# Altium schematic symbol library TX2-Baseboard.SchLib: 118 symbols
Pins are listed as number, name and electrical type; pins without a type are passive.

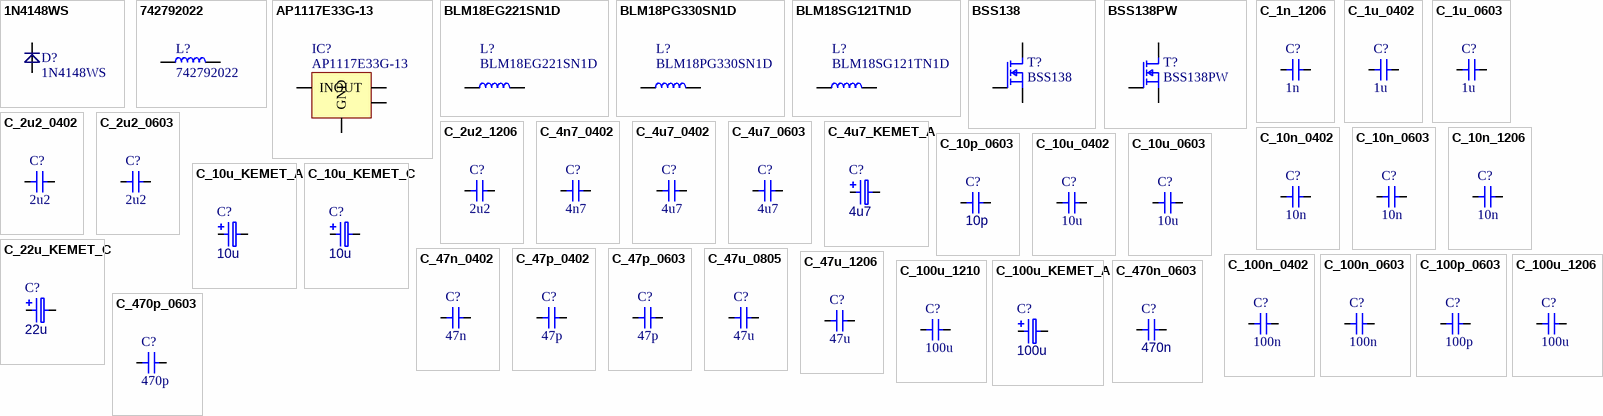
[diagram p0: symbols 1N4148WS to C_470p_0603]

## 1N4148WS
designator D?
Diode small signal; Manufacturer: MULTICOMP; PartNumber: 1N4148WS; Value: 1N4148WS; PartSymbol: 1N4148WS
footprint SOD-323
pins: A, C

## 742792022
designator L?
WURTH ELEKTRONIK - 742792022 - FERRITE BEAD, 0.05OHM, 2A, 0805; Part Number: 742792022; Value: 742792022; Manufacturer: WURTH ELEKTRONIK; Part Symbol: 742792022
footprint 0805
pins: 1, 2

## AP1117E33G-13
designator IC?
IC, LDO, REG, 3.3V, SOT223; Manufacturer: DIODES INC.; Part Number: AP1117E33G-13; Part Symbol: AP1117E33G-13; Value: AP1117E33G-13
footprint SOT223
pins: 1 GND (power), 2 OUT, 3 IN (power), 4 OUT

## BLM18EG221SN1D
designator L?
FERRITE BEAD, 0.025OHM, 3A, 0603; Manufacturer: MURATA; Part Number: BLM18EG221SN1D; Value: BLM18EG221SN1D; Part Symbol: BLM18EG221SN1D
footprint 0603
pins: 1, 2

## BLM18PG330SN1D
designator L?
FERRITE BEAD, 0.025OHM, 3A, 0603; Manufacturer: MURATA; Part Number: BLM18PG330SN1D; Value: BLM18PG330SN1D; Part Symbol: BLM18PG330SN1D
footprint 0603
pins: 1, 2

## BLM18SG121TN1D
designator L?
FERRITE BEAD, 0.025OHM, 3A, 0603; Manufacturer: MURATA; Part Number: BLM18SG121TN1D; Value: BLM18SG121TN1D; Part Symbol: BLM18SG121TN1D
footprint 0603
pins: 1, 2

## BSS138
designator T?
MOSFET, N CH, 60V, 0.2A; Manufacturer: NXP; Value: BSS138; Part Number: BSS138; Part Symbol: BSS138
footprint SOT-23 (SOT23, 3-Leads, Body 2.90x2.45mm, Pitch 0.95mm, IPC Medium Density)
footprint SC70-3
pins: 1 G, 2 S, 3 D

## BSS138PW
designator T?
MOSFET, N CH, 60V, 0.2A; Manufacturer: NXP; Value: BSS138PW; Part Number: BSS138PW; Part Symbol: BSS138PW
footprint SOT-23 (SOT23, 3-Leads, Body 2.90x2.45mm, Pitch 0.95mm, IPC Medium Density)
footprint SC70-3
pins: 1 G, 2 S, 3 D

## C_1n_1206
designator C?, comment 1n
MLCC SMT Capacitor 1nF 1206; PartNumber: C_1n_1206; Manufacturer: AVX; PartSymbol: 12061A102JAT2A; Value: 1n
footprint 1206
pins: 1, 2
1 alternate drawing of the same symbol

## C_1u_0402
designator C?, comment 1u
MLCC SMT Capacitor 1uF 0402; PartNumber: C_1u_0402; Manufacturer: MULTICOMP; PartSymbol: MC0402F105Z6R3CT; Value: 1u
footprint 0402
pins: 1, 2
1 alternate drawing of the same symbol

## C_1u_0603
designator C?, comment 1u
MLCC SMT Capacitor 1uF 0603; PartNumber: C_1u_0603; Manufacturer: KEMET; PartSymbol: C0603C105M4PACTU; Value: 1u
footprint 0603 (Chip Inductor Ferrite Bead 0603)
pins: 1, 2
1 alternate drawing of the same symbol

## C_2u2_0402
designator C?, comment 2u2
MLCC SMT Capacitor 2.2uF 0402; PartNumber: C_2u2_0402; Manufacturer: TDK; PartSymbol: C1005X5R1A225K050BC; Value: 2u2
footprint 0402
pins: 1, 2
1 alternate drawing of the same symbol

## C_2u2_0603
designator C?, comment 2u2
MLCC SMT Capacitor 2.2uF 0603; PartNumber: C_2u2_0603; Manufacturer: TDK; PartSymbol: C1005X5R1A225K050BC; Value: 2u2
footprint 0603 (Chip Inductor Ferrite Bead 0603)
pins: 1, 2
1 alternate drawing of the same symbol

## C_2u2_1206
designator C?, comment 2u2
MLCC SMT Capacitor 2.2uF 1206; PartNumber: C_2u2_1206; Manufacturer: KEMET; PartSymbol: C1206C225J5RACTU; Value: 2u2
footprint 1206
pins: 1, 2
1 alternate drawing of the same symbol

## C_4n7_0402
designator C?, comment 4n7
MLCC SMT Capacitor 4.7 nF 0402; PartNumber: C_4n7_0402; Manufacturer: TDK; PartSymbol: CGA2B3X7S2A472K050BB; Value: 4n7
footprint 0402
pins: 1, 2
1 alternate drawing of the same symbol

## C_4u7_0402
designator C?, comment 4u7
MLCC SMT Capacitor 4.7uF 0402; PartNumber: C_4u7_0402; Manufacturer: MURATA; PartSymbol: GRM155R60G475ME; Value: 4u7
footprint 0402
pins: 1, 2
1 alternate drawing of the same symbol

## C_4u7_0603
designator C?, comment 4u7
MLCC SMT Capacitor 4.7uF 0603; PartNumber: C_4u7_0603; Manufacturer: MULTICOMP; PartSymbol: MC0603X475K6R3CT; Value: 4u7
footprint 0603 (Chip Inductor Ferrite Bead 0603)
pins: 1, 2
1 alternate drawing of the same symbol

## C_4u7_KEMET_A
designator C?, comment 4u7
Tantalum SMT Capacitor 4u7F Case KEMET_A; Part Number: C_4u7_KEMET_A; Manufacturer: KEMET; Part Symbol: T491A475K010AT; Value: 4u7
footprint KEMET_A
pins: 1, 2
1 alternate drawing of the same symbol

## C_10n_0402
designator C?, comment 10n
MLCC SMT Capacitor 10 nF 0402; PartNumber: C_10n_0402; Manufacturer: AVX; PartSymbol: 04025G103ZAT2A; Value: 10n
footprint 0402
pins: 1, 2
1 alternate drawing of the same symbol

## C_10n_0603
designator C?, comment 10n
MLCC SMT Capacitor 10 nF 0603; PartNumber: C_10n_0603; Manufacturer: AVX; PartSymbol: 06031C103JAT2A; Value: 10n
footprint 0603 (Chip Inductor Ferrite Bead 0603)
pins: 1, 2
1 alternate drawing of the same symbol

## C_10n_1206
designator C?, comment 10n
MLCC SMT Capacitor 10nF 1206; PartNumber: C_10n_1206; Manufacturer: MULTICOMP; PartSymbol: MC1206B103K631CT; Value: 10n
footprint 1206
pins: 1, 2
1 alternate drawing of the same symbol

## C_10p_0603
designator C?, comment 10p
MLCC SMT Capacitor 10pF 0603; Part Number: C_10p_0603; Manufacturer: JOHANSON TECHNOLOGY; Part Symbol: 251R14S100GV4T; Value: 10p
footprint 0603
pins: 1, 2
1 alternate drawing of the same symbol

## C_10u_0402
designator C?, comment 10u
MLCC SMT Capacitor 10uF 0402; PartNumber: C_10u_0402; Manufacturer: TDK; PartSymbol: C1005X5R0J106M050BC; Value: 10u
footprint 0402
pins: 1, 2
1 alternate drawing of the same symbol

## C_10u_0603
designator C?, comment 10u
MLCC SMT Capacitor 10uF 0603; PartNumber: C_10u_0603; Manufacturer: Walsin; PartSymbol: 0603X106M6R3CT; Value: 10u
footprint 0603 (Chip Inductor Ferrite Bead 0603)
pins: 1, 2
1 alternate drawing of the same symbol

## C_10u_KEMET_A
designator C?, comment 10u
Tantalum SMT Capacitor 10uF Case KEMET_A; Part Number: C_10u_KEMET_A; Manufacturer: VISHAY; Part Symbol: 293D106X9016A2TE3; Value: 10u
footprint KEMET_A
pins: 1, 2
1 alternate drawing of the same symbol

## C_10u_KEMET_C
designator C?, comment 10u
Tantalum SMT Capacitor 10uF Case KEMET_C; Part Number: C_10u_KEMET_C; Manufacturer: KEMET; Part Symbol: T491C106K025AT; Value: 10u
footprint KEMET_C
pins: 1, 2
1 alternate drawing of the same symbol

## C_22u_KEMET_C
designator C?, comment 22u
Tantalum SMT Capacitor 22uF Case KEMET_C; Part Number: C_22u_KEMET_C; Manufacturer: KEMET; Part Symbol: T491C226K025AT; Value: 22u
footprint KEMET_C
pins: 1, 2
1 alternate drawing of the same symbol

## C_47n_0402
designator C?, comment 47n
MLCC SMT Capacitor 47nF 0402; PartNumber: C_47n_0402; Manufacturer: MULTICOMP; PartSymbol: MC0402X473K160CT; Value: 47n
footprint 0402
pins: 1, 2
1 alternate drawing of the same symbol

## C_47p_0402
designator C?, comment 47p
MLCC SMT Capacitor 47pF 0402; PartNumber: C_47p_0402; Manufacturer: KEMET; PartSymbol: C0402C470J5GACTU; Value: 47p
footprint 0402
pins: 1, 2
1 alternate drawing of the same symbol

## C_47p_0603
designator C?, comment 47p
MLCC SMT Capacitor 47pF 0603; PartNumber: C_47p_0603; Manufacturer: AVX; PartSymbol: 06031A470KAT2A; Value: 47p
footprint 0603 (Chip Inductor Ferrite Bead 0603)
pins: 1, 2
1 alternate drawing of the same symbol

## C_47u_0805
designator C?, comment 47u
MLCC SMT Capacitor 47uF 0805; PartNumber: C_47u_0805; Manufacturer: KEMET; PartSymbol: C0805C476M9PACTU; Value: 47u
footprint 0805
pins: 1, 2
1 alternate drawing of the same symbol

## C_47u_1206
designator C?, comment 47u
MLCC SMT Capacitor 47uF 1206; PartNumber: C_47u_1206; Manufacturer: MURATA; PartSymbol: GRM31CC80J476KE18L; Value: 47u
footprint 1206
pins: 1, 2
1 alternate drawing of the same symbol

## C_100n_0402
designator C?, comment 100n
MLCC SMT Capacitor 100n 0402; PartNumber: C_100n_0402; Manufacturer: TDK; PartSymbol: C1005X5R0J104K050BA; Value: 100n
footprint 0402
pins: 1, 2
1 alternate drawing of the same symbol

## C_100n_0603
designator C?, comment 100n
MLCC SMT Capacitor 100nF 0603; PartNumber: C_100n_0603; Manufacturer: AVX; PartSymbol: 0603YC104KAZ2A; Value: 100n
footprint 0603 (Chip Inductor Ferrite Bead 0603)
pins: 1, 2
1 alternate drawing of the same symbol

## C_100p_0603
designator C?, comment 100p
MLCC SMT Capacitor 100pF 0603; PartNumber: C_100p_0603; Manufacturer: Walsin; PartSymbol: 0603N101J500CT; Value: 100p
footprint 0603 (Chip Inductor Ferrite Bead 0603)
pins: 1, 2
1 alternate drawing of the same symbol

## C_100u_1206
designator C?, comment 100u
MLCC SMT Capacitor 100uF 1206; PartNumber: C_100u_1206; Manufacturer: Vishay; PartSymbol: TMCMA0J107MTRF; Value: 100u
footprint 1206
pins: 1, 2
1 alternate drawing of the same symbol

## C_100u_1210
designator C?, comment 100u
MLCC SMT Capacitor 100uF 1210; PartNumber: C_100u_1210; Manufacturer: SAMSUNG; PartSymbol: CL32A107MQVNNNE; Value: 100u
footprint 1210
pins: 1, 2
1 alternate drawing of the same symbol

## C_100u_KEMET_A
designator C?, comment 100u
Tantalum SMT Capacitor 100uF Case KEMET_A; Part Number: C_100u_KEMET_A; Manufacturer: VISHAY; Part Symbol: 298D107X06R3A2T; Value: 100u
footprint KEMET_A
pins: 1, 2
1 alternate drawing of the same symbol

## C_470n_0603
designator C?, comment 470n
MLCC SMT Capacitor 470nF 0603; Part Number: C_470n_0603; Manufacturer: TDK; Part Symbol: C1608X5R1H474K080AB; Value: 470n
footprint 0603
pins: 1, 2
1 alternate drawing of the same symbol

## C_470p_0603
designator C?, comment 470p
MLCC SMT Capacitor 470pF 0603; PartNumber: C_470p_0603; Manufacturer: AVX; PartSymbol: 06031C471JAT2A; Value: 470p
footprint 0603 (Chip Inductor Ferrite Bead 0603)
pins: 1, 2
1 alternate drawing of the same symbol

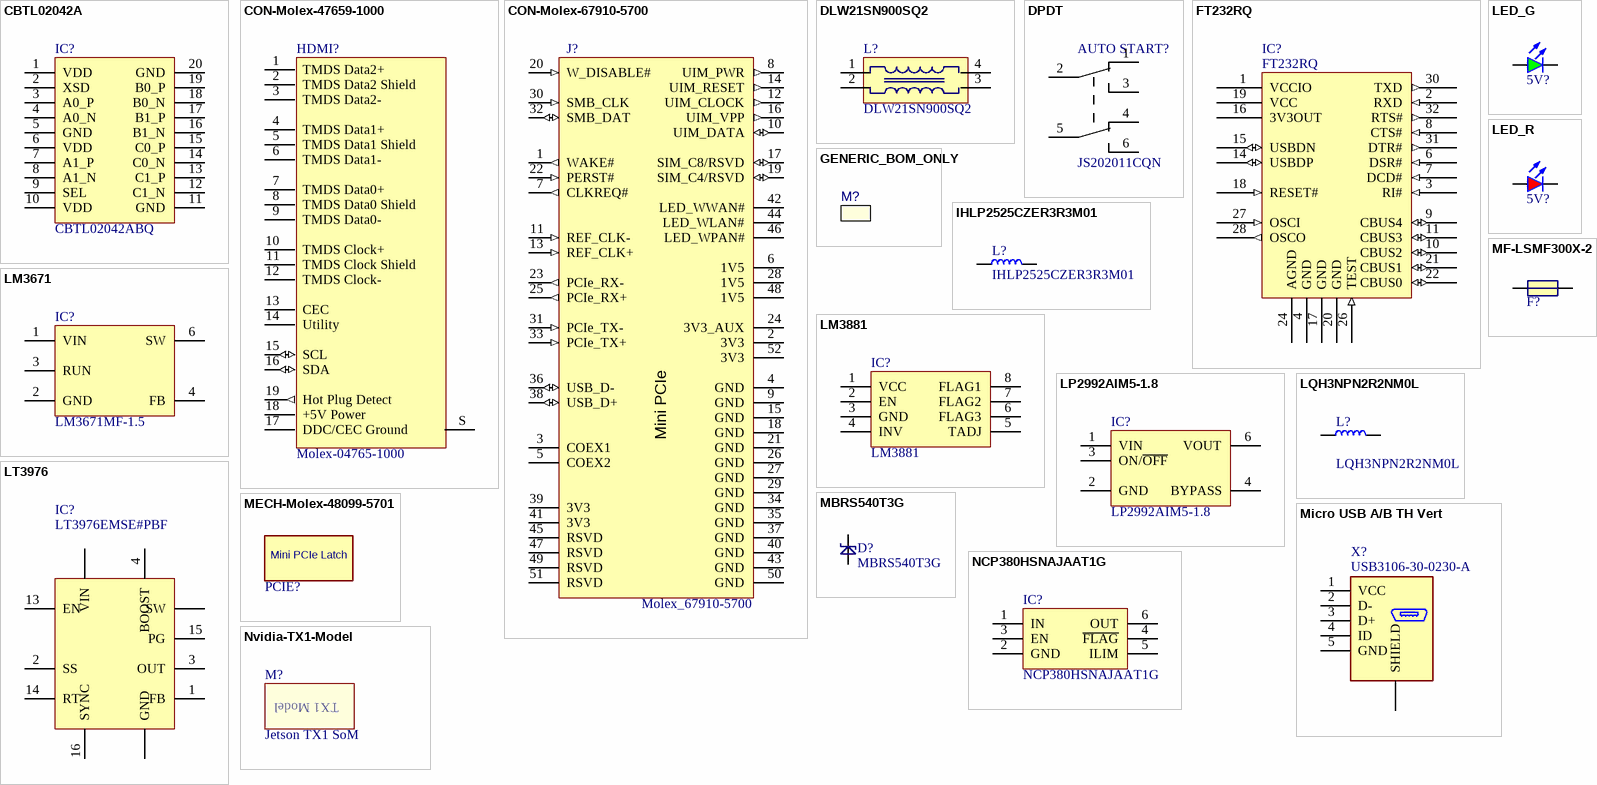
[diagram p1: symbols CBTL02042A to Nvidia-TX1-Model]

## CBTL02042A
designator IC?, comment CBTL02042ABQ
IC MUX/DEMUX 2:1 PCI 20DHVQFN; Manufacturer: NXP Semiconductors; Part Symbol: CBTL02042ABQ,115; Part Number: CBTL02042ABQ; Value: CBTL02042ABQ
footprint DHVQFN20
pins: 1 VDD, 2 XSD, 3 A0_P, 4 A0_N, 5 GND, 6 VDD, 7 A1_P, 8 A1_N, 9 SEL, 10 VDD, 11 GND, 12 C1_N, 13 C1_P, 14 C0_N, 15 C0_P, 16 B1_N, 17 B1_P, 18 B0_N, 19 B0_P, 20 GND

## CON-Molex-47659-1000
designator HDMI?, comment Molex-04765-1000
HDMI connector vertical; Part Number: CON-Molex-47659-1000; Manufacturer: Molex; Part Symbol: 47659-1000; Value: Molex-04765-1000
footprint CON-Molex-04765-1000
pins: 1 TMDS Data2+, 2 TMDS Data2 Shield, 3 TMDS Data2-, 4 TMDS Data1+, 5 TMDS Data1 Shield, 6 TMDS Data1-, 7 TMDS Data0+, 8 TMDS Data0 Shield, 9 TMDS Data0-, 10 TMDS Clock+, 11 TMDS Clock Shield, 12 TMDS Clock-, 13 CEC, 14 Utility, 15 SCL (io), 16 SDA (io), 17 DDC/CEC Ground (power), 18 +5V Power (power), 19 Hot Plug Detect (out), S SH

## CON-Molex-67910-5700
designator J?, comment Molex_67910-5700
PCIe Mini Card Holder 4mm; Part Number: CON-Molex-67910-5700; Manufacturer: Molex; Value: Molex_67910-5700; Part Symbol: 67910-5700
footprint T_Molex_67910-5700 (Molex PCIe mini card connector with clip)
pins: 1 WAKE# (out), 2 3V3 (power), 3 COEX1, 4 GND (power), 5 COEX2, 6 1V5 (power), 7 CLKREQ# (out), 8 UIM_PWR (out), 9 GND (power), 10 UIM_DATA (io), 11 REF_CLK- (in), 12 UIM_CLOCK (out), 13 REF_CLK+ (in), 14 UIM_RESET (out), 15 GND (power), 16 UIM_VPP (out), 17 SIM_C8/RSVD (io), 18 GND (power), 19 SIM_C4/RSVD (io), 20 W_DISABLE# (in), 21 GND (power), 22 PERST# (in), 23 PCIe_RX- (out), 24 3V3_AUX (power), 25 PCIe_RX+ (out), 26 GND (power), 27 GND (power), 28 1V5 (power), 29 GND (power), 30 SMB_CLK (in), 31 PCIe_TX- (in), 32 SMB_DAT (io), 33 PCIe_TX+ (in), 34 GND (power), 35 GND (power), 36 USB_D- (io), 37 GND (power), 38 USB_D+ (io), 39 3V3, 40 GND (power), 41 3V3, 42 LED_WWAN# (oc), 43 GND (power), 44 LED_WLAN# (oc), 45 RSVD, 46 LED_WPAN# (oc), 47 RSVD, 48 1V5 (power), 49 RSVD, 50 GND (power), 51 RSVD, 52 3V3 (power)
text: Mini PCIe

## DLW21SN900SQ2
designator L?
Common mode choke; Manufacturer: MURATA; Part Symbol: DLW21SN900SQ2L; Part Number: DLW21SN900SQ2; Value: DLW21SN900SQ2
footprint DLW21SN900SQ2
pins: 1, 2, 3, 4

## DPDT
designator AUTO START?, comment JS202011CQN
Sub-Miniature Slide Switch; Manufacturer: C&K; Value: JS202011CQN
footprint JS202011CQN
pins: 1, 2, 3, 4, 5, 6

## FT232RQ
designator IC?
USB to serial UART interface; Manufacturer: FTDI; Part Symbol: FT232RQ-REEL; Part Number: FT232RQ; Value: FT232RQ
footprint QFN-32
pins: 1 VCCIO (power), 2 RXD (in), 3 RI# (in), 4 GND (power), 6 DSR# (in), 7 DCD# (in), 8 CTS# (in), 9 CBUS4 (io), 10 CBUS2 (io), 11 CBUS3 (io), 14 USBDP (io), 15 USBDN (io), 16 3V3OUT (power), 17 GND (power), 18 RESET# (in), 19 VCC (power), 20 GND (power), 21 CBUS1 (io), 22 CBUS0 (io), 24 AGND (power), 26 TEST (in), 27 OSCI (in), 28 OSCO (out), 30 TXD (out), 31 DTR# (out), 32 RTS# (out)

## GENERIC_BOM_ONLY
designator M?  (value not drawn)  (mechanical)
Manufacturer: Dremec; Part Symbol: 316/3.2x07

## IHLP2525CZER3R3M01
designator L?
3.3 µH, ± 20%, Shielded, 0.02 ohm, 8 A; Manufacturer: VISHAY; Part Number: IHLP2525CZER3R3M01; Value: IHLP2525CZER3R3M01; Part Symbol: IHLP2525CZER3R3M01
footprint IHLP-2525CZ-01
pins: 1, 2

## LED_G
designator 5V?, comment KPT-1608SGC  (value not drawn)
LED Green 0603 case; Part Number: LED_G; Manufacturer: KINGBRIGHT; Value: KPT-1608SGC; Part Symbol: KPT-1608SGC
footprint LED0603
pins: A, K

## LED_R
designator 5V?, comment KPT-1608EC  (value not drawn)
LED Red 0603 case; Part Number: LED_R; Manufacturer: KINGBRIGHT; Value: KPT-1608EC; Part Symbol: KPT-1608EC
footprint LED0603
pins: A, K

## LM3671
designator IC?, comment LM3671MF-1.5
DC/DC Buck Converter; Manufacturer: TEXAS INSTRUMENTS; Part Symbol: LM3671MF-1.5/NOPB; Part Number: LM3671MF-1.5; Value: LM3671MF-1.5
footprint SOT23-5N
pins: 1 VIN, 2 GND, 3 RUN, 4 FB, 6 SW

## LM3881
designator IC?
TEXAS INSTRUMENTS  LM3881MME/NOPB  Power Sequencer, 3-Monitors, 2.7V-5.5Vin,VSSOP-8; Part Number: LM3881; Value: LM3881; Manufacturer: TEXAS INSTRUMENTS; Part Symbol: LM3881MME
footprint MSOP-8
pins: 1 VCC, 2 EN (power), 3 GND (power), 4 INV, 5 TADJ (power), 6 FLAG3, 7 FLAG2, 8 FLAG1

## LP2992AIM5-1.8
designator IC?
LDO 1.8V 250mA; Manufacturer: TEXAS INSTRUMENTS; Part Symbol: LP2992AIM5-1.8/NOPB; Part Number: LP2992AIM5-1.8; Value: LP2992AIM5-1.8
footprint SOT23-5N
pins: 1 VIN, 2 GND, 3 ON/~{OFF}, 4 BYPASS, 6 VOUT

## LQH3NPN2R2NM0L
designator L?
INDUCTOR, 2.2 µH, ± 30%, 1212, 90 MHz, 0.073 ohm; Manufacturer: MURATA; Part Number: LQH3NPN2R2NM0L; Value: LQH3NPN2R2NM0L; Part Symbol: LQH3NPN2R2NM0L
footprint LQH3NPN2R2NM
pins: 1, 2

## LT3976
designator IC?, comment LT3976EMSE#PBF
LINEAR TECHNOLOGY  LT3976EMSE#PBF  DC-DC CONVERTER, 2MHZ, 5A, MSOP-16; Part Number: LT3976EMSE#PBF; Value: LT3976EMSE#PBF; Manufacturer: LINEAR TECHNOLOGY; Part Symbol: LT3976EMSE#PBF
footprint MSOP-16
footprint LT3976EMSE
pins: 1 FB, 2 SS, 3 OUT, 4 BOOST, 13 EN, 14 RT, 15 PG, 16 SYNC, GND, SW, VIN

## MBRS540T3G
designator D?
ON SEMICONDUCTOR  MBRS540T3G  Rectifier Diode, Single, 40 V, 5 A, 500 mV, 190 A, 150 °C; Part Number: MBRS540T3G; Value: MBRS540T3G; Manufacturer: ON SEMICONDUCTOR; Part Symbol: MBRS540T3G
footprint SMC-403-03
pins: A, C

## MECH-Molex-48099-5701
designator PCIE?  (value not drawn)  (mechanical)
PCI Express/PCI Connectors LATCH ASSY FOR MINIP CI-ENEW TYPE W/COVER; Manufacturer: Molex; Part Number: MECH-Molex-48099-5701; Value: MECH-Molex-48099-5701; Part Symbol: 48099-5701
footprint MECH-Molex-48099-5701
text: Mini PCIe Latch

## MF-LSMF300X-2
designator F?, comment 3.0A  (value not drawn)
3.0A, 6V, PTC Resettabe Fuse; Part Number: MF-LSMF300X-2; Manufacturer: BOURNS; Value: 3.0A; Part Symbol: MF-LSMF300X-2
footprint Fuse-MF-LSMF
pins: 1, 2

## Micro USB A/B TH Vert
designator X?, comment USB3106-30-0230-A
Micro USB A/B TH Vertical; Manufacturer: GLOBAL CONNECTOR TECHNOLOGY; Part Symbol: USB3105-30-A; Part Number: Micro USB A/B TH Vert; Value: USB3106-30-0230-A
footprint USB3106
pins: 1 VCC (power), 2 D-, 3 D+, 4 ID, 5 GND (power), S SHIELD

## NCP380HSNAJAAT1G
designator IC?
POWER LOAD SWITCH, HIGH SIDE; Manufacturer: ON Semiconductor; Part Number: NCP380HSNAJAAT1G; Value: NCP380HSNAJAAT1G; Part Symbol: NCP380HSNAJAAT1G
footprint TSOP-6
pins: 1 IN, 2 GND, 3 EN, 4 ~{FLAG}, 5 ILIM, 6 OUT

## Nvidia-TX1-Model
designator M?, comment Jetson TX1 SoM
TX1 module; Part Number: Nvidia-TX1-Model; Manufacturer: NVIDIA; Part Symbol: Jetson TX1-SoM; Value: Jetson TX1 SoM
footprint Nvidia-TX1-Model
text: TX1 Model

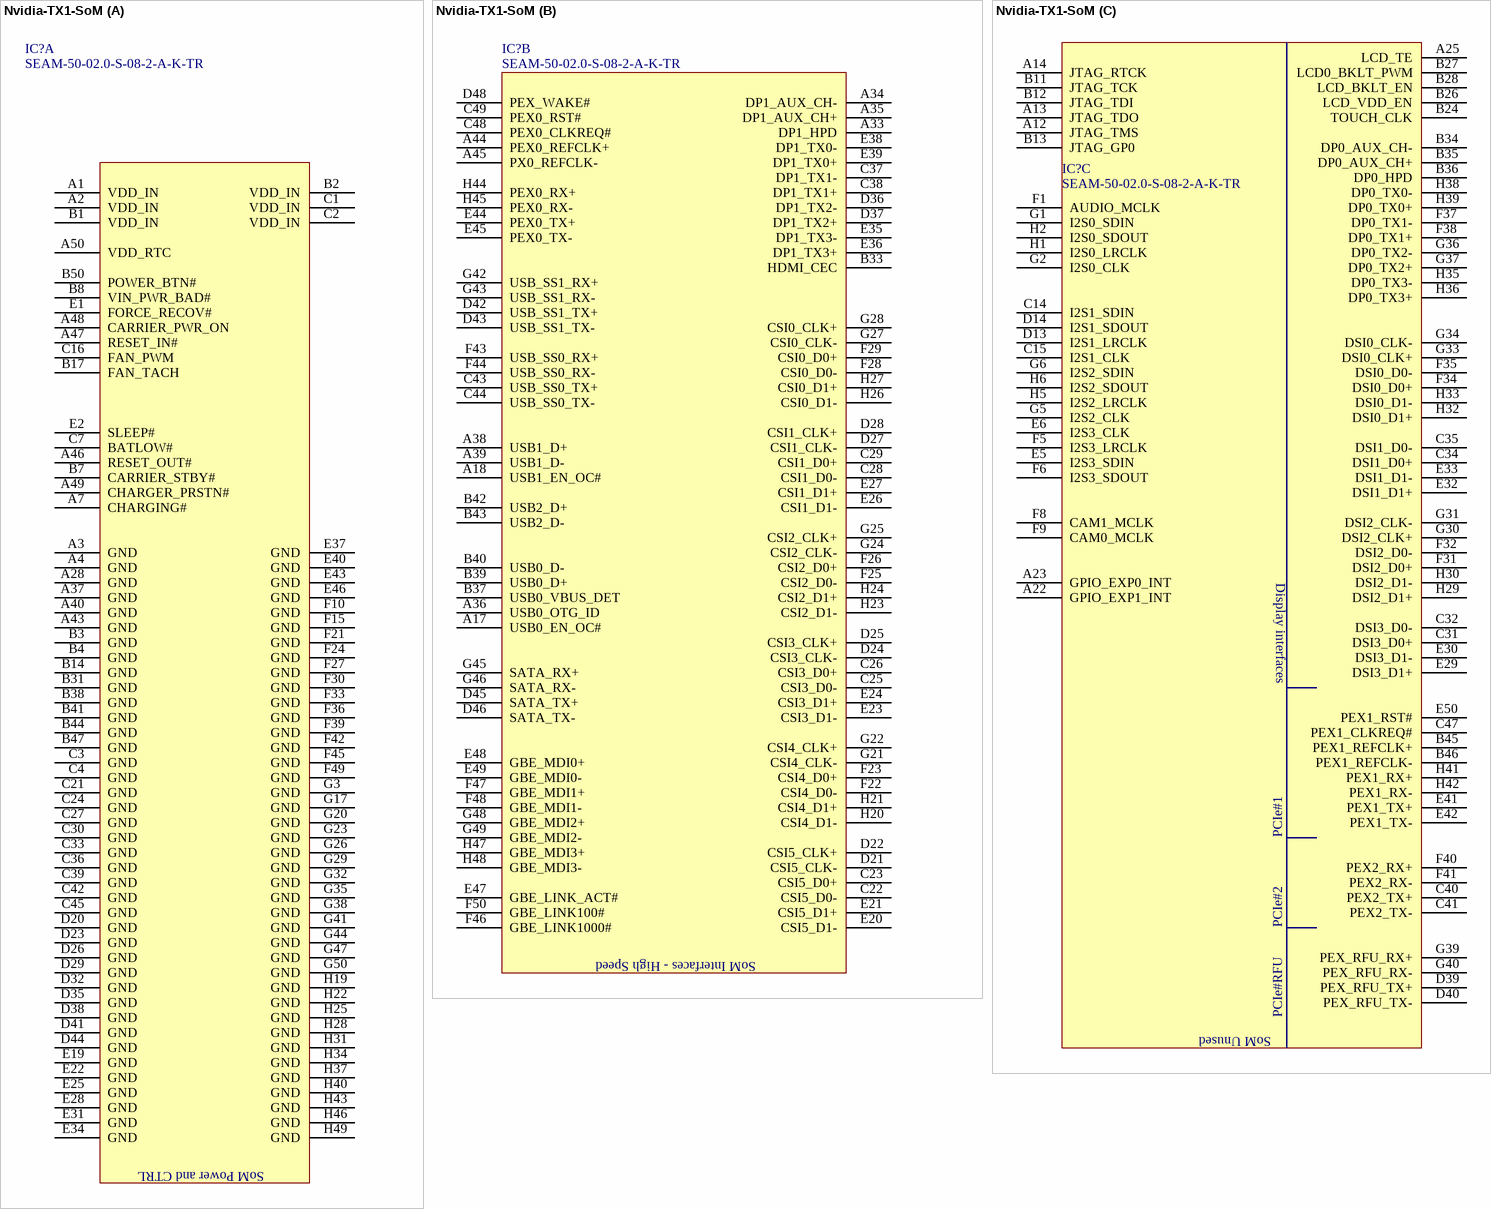
[diagram p2: symbol Nvidia-TX1-SoM]

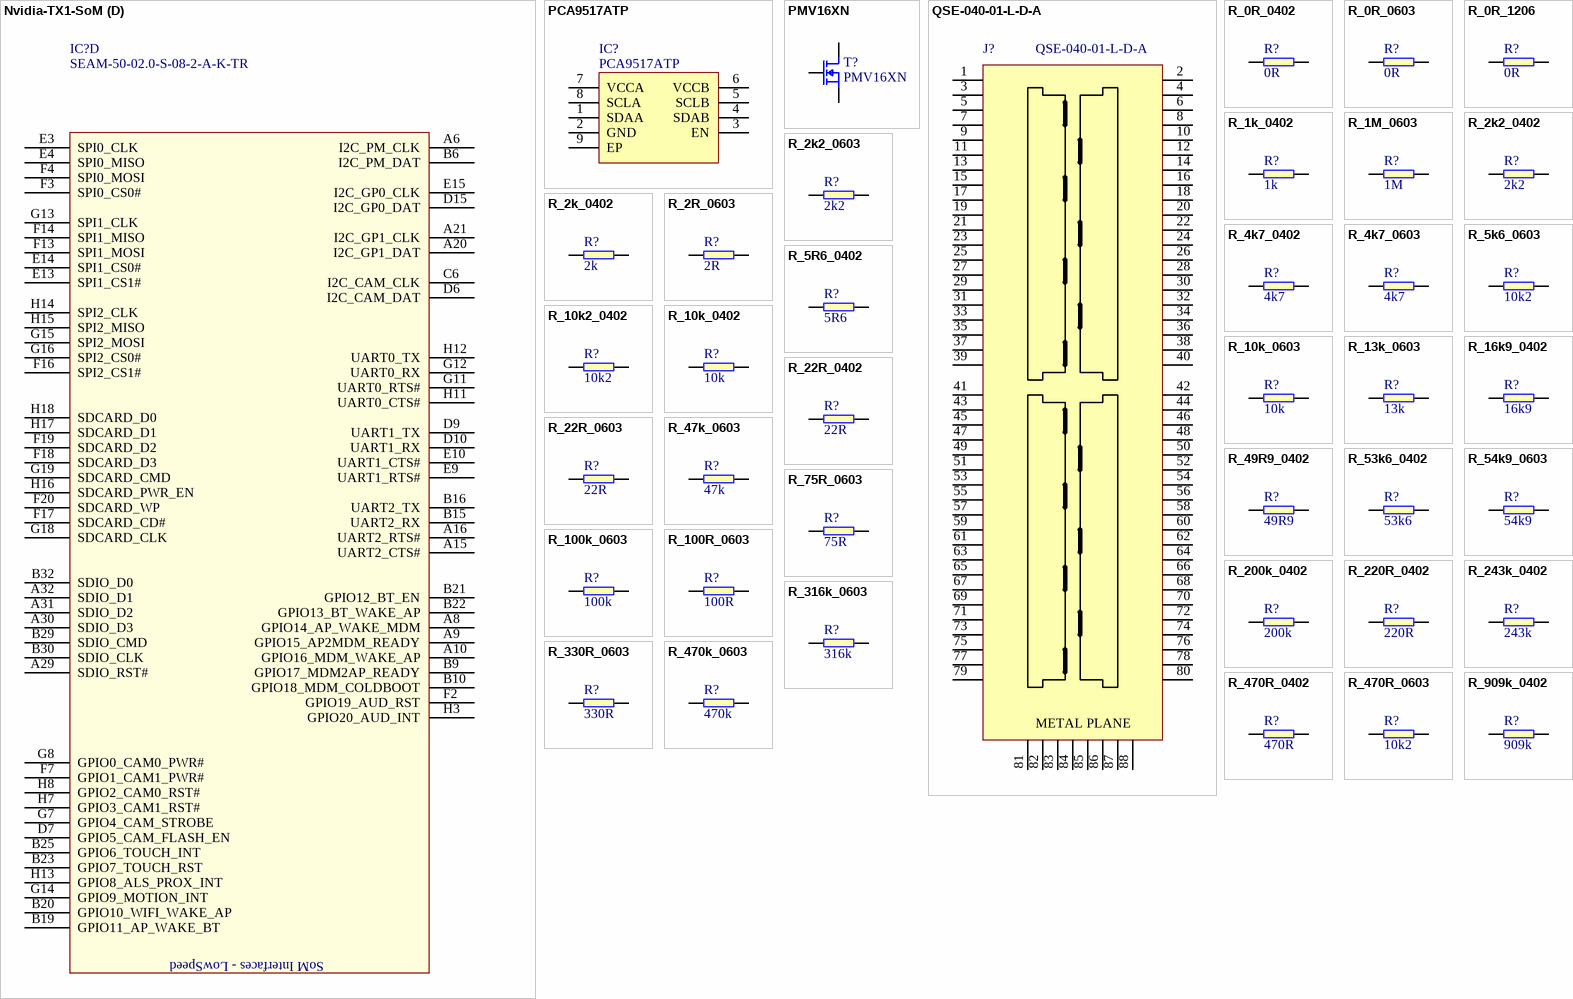
[diagram p3: symbols Nvidia-TX1-SoM to R_909k_0402]

## Nvidia-TX1-SoM
designator IC?, comment SEAM-50-02.0-S-08-2-A-K-TR
TX1 module (board connector); Part Number: Nvidia-TX1-SoM; Manufacturer: Samtec; Part Symbol: SEAM-50-02.0-S-08-2-A-K-TR; Value: SEAM-50-02.0-S-08-2-A-K-TR
footprint Nvidia-TX1-SoM
part A pins: A1 VDD_IN, A2 VDD_IN, A3 GND, A4 GND, A7 CHARGING#, A28 GND, A37 GND, A40 GND, A43 GND, A46 RESET_OUT#, A47 RESET_IN#, A48 CARRIER_PWR_ON, A49 CHARGER_PRSTN#, A50 VDD_RTC, B1 VDD_IN, B2 VDD_IN, B3 GND, B4 GND, B7 CARRIER_STBY#, B8 VIN_PWR_BAD#, B14 GND, B17 FAN_TACH, B31 GND, B38 GND, B41 GND, B44 GND, B47 GND, B50 POWER_BTN#, C1 VDD_IN, C2 VDD_IN, C3 GND, C4 GND, C7 BATLOW#, C16 FAN_PWM, C21 GND, C24 GND, C27 GND, C30 GND, C33 GND, C36 GND, C39 GND, C42 GND, C45 GND, D20 GND, D23 GND, D26 GND, D29 GND, D32 GND, D35 GND, D38 GND, D41 GND, D44 GND, E1 FORCE_RECOV#, E2 SLEEP#, E19 GND, E22 GND, E25 GND, E28 GND, E31 GND, E34 GND, E37 GND, E40 GND, E43 GND, E46 GND, F10 GND, F15 GND, F21 GND, F24 GND, F27 GND, F30 GND, F33 GND, F36 GND, F39 GND, F42 GND, F45 GND, F49 GND, G3 GND, G17 GND, G20 GND, G23 GND, G26 GND, G29 GND, G32 GND, G35 GND, G38 GND, G41 GND, G44 GND, G47 GND, G50 GND, H19 GND, H22 GND, H25 GND, H28 GND, H31 GND, H34 GND, H37 GND, H40 GND, H43 GND, H46 GND, H49 GND
part B pins: A17 USB0_EN_OC#, A18 USB1_EN_OC#, A33 DP1_HPD, A34 DP1_AUX_CH-, A35 DP1_AUX_CH+, A36 USB0_OTG_ID, A38 USB1_D+, A39 USB1_D-, A44 PEX0_REFCLK+, A45 PX0_REFCLK-, B33 HDMI_CEC, B37 USB0_VBUS_DET, B39 USB0_D+, B40 USB0_D-, B42 USB2_D+, B43 USB2_D-, C22 CSI5_D0-, C23 CSI5_D0+, C25 CSI3_D0-, C26 CSI3_D0+, C28 CSI1_D0-, C29 CSI1_D0+, C37 DP1_TX1-, C38 DP1_TX1+, C43 USB_SS0_TX+, C44 USB_SS0_TX-, C48 PEX0_CLKREQ#, C49 PEX0_RST#, D21 CSI5_CLK-, D22 CSI5_CLK+, D24 CSI3_CLK-, D25 CSI3_CLK+, D27 CSI1_CLK-, D28 CSI1_CLK+, D36 DP1_TX2-, D37 DP1_TX2+, D42 USB_SS1_TX+, D43 USB_SS1_TX-, D45 SATA_TX+, D46 SATA_TX-, D48 PEX_WAKE#, E20 CSI5_D1-, E21 CSI5_D1+, E23 CSI3_D1-, E24 CSI3_D1+, E26 CSI1_D1-, E27 CSI1_D1+, E35 DP1_TX3-, E36 DP1_TX3+, E38 DP1_TX0-, E39 DP1_TX0+, E44 PEX0_TX+, E45 PEX0_TX-, E47 GBE_LINK_ACT#, E48 GBE_MDI0+, E49 GBE_MDI0-, F22 CSI4_D0-, F23 CSI4_D0+, F25 CSI2_D0-, F26 CSI2_D0+, F28 CSI0_D0-, F29 CSI0_D0+, F43 USB_SS0_RX+, F44 USB_SS0_RX-, F46 GBE_LINK1000#, F47 GBE_MDI1+, F48 GBE_MDI1-, F50 GBE_LINK100#, G21 CSI4_CLK-, G22 CSI4_CLK+, G24 CSI2_CLK-, G25 CSI2_CLK+, G27 CSI0_CLK-, G28 CSI0_CLK+, G42 USB_SS1_RX+, G43 USB_SS1_RX-, G45 SATA_RX+, G46 SATA_RX-, G48 GBE_MDI2+, G49 GBE_MDI2-, H20 CSI4_D1-, H21 CSI4_D1+, H23 CSI2_D1-, H24 CSI2_D1+, H26 CSI0_D1-, H27 CSI0_D1+, H44 PEX0_RX+, H45 PEX0_RX-, H47 GBE_MDI3+, H48 GBE_MDI3-
part C pins: A12 JTAG_TMS, A13 JTAG_TDO, A14 JTAG_RTCK, A22 GPIO_EXP1_INT, A23 GPIO_EXP0_INT, A25 LCD_TE, B11 JTAG_TCK, B12 JTAG_TDI, B13 JTAG_GP0, B24 TOUCH_CLK, B26 LCD_VDD_EN, B27 LCD0_BKLT_PWM, B28 LCD_BKLT_EN, B34 DP0_AUX_CH-, B35 DP0_AUX_CH+, B36 DP0_HPD, B45 PEX1_REFCLK+, B46 PEX1_REFCLK-, C14 I2S1_SDIN, C15 I2S1_CLK, C31 DSI3_D0+, C32 DSI3_D0-, C34 DSI1_D0+, C35 DSI1_D0-, C40 PEX2_TX+, C41 PEX2_TX-, C47 PEX1_CLKREQ#, D13 I2S1_LRCLK, D14 I2S1_SDOUT, D39 PEX_RFU_TX+, D40 PEX_RFU_TX-, E5 I2S3_SDIN, E6 I2S3_CLK, E29 DSI3_D1+, E30 DSI3_D1-, E32 DSI1_D1+, E33 DSI1_D1-, E41 PEX1_TX+, E42 PEX1_TX-, E50 PEX1_RST#, F1 AUDIO_MCLK, F5 I2S3_LRCLK, F6 I2S3_SDOUT, F8 CAM1_MCLK, F9 CAM0_MCLK, F31 DSI2_D0+, F32 DSI2_D0-, F34 DSI0_D0+, F35 DSI0_D0-, F37 DP0_TX1-, F38 DP0_TX1+, F40 PEX2_RX+, F41 PEX2_RX-, G1 I2S0_SDIN, G2 I2S0_CLK, G5 I2S2_CLK, G6 I2S2_SDIN, G30 DSI2_CLK+, G31 DSI2_CLK-, G33 DSI0_CLK+, G34 DSI0_CLK-, G36 DP0_TX2-, G37 DP0_TX2+, G39 PEX_RFU_RX+, G40 PEX_RFU_RX-, H1 I2S0_LRCLK, H2 I2S0_SDOUT, H5 I2S2_LRCLK, H6 I2S2_SDOUT, H29 DSI2_D1+, H30 DSI2_D1-, H32 DSI0_D1+, H33 DSI0_D1-, H35 DP0_TX3-, H36 DP0_TX3+, H38 DP0_TX0-, H39 DP0_TX0+, H41 PEX1_RX+, H42 PEX1_RX-
part D pins: A6 I2C_PM_CLK, A8 GPIO14_AP_WAKE_MDM, A9 GPIO15_AP2MDM_READY, A10 GPIO16_MDM_WAKE_AP, A15 UART2_CTS#, A16 UART2_RTS#, A20 I2C_GP1_DAT, A21 I2C_GP1_CLK, A29 SDIO_RST#, A30 SDIO_D3, A31 SDIO_D2, A32 SDIO_D1, B6 I2C_PM_DAT, B9 GPIO17_MDM2AP_READY, B10 GPIO18_MDM_COLDBOOT, B15 UART2_RX, B16 UART2_TX, B19 GPIO11_AP_WAKE_BT, B20 GPIO10_WIFI_WAKE_AP, B21 GPIO12_BT_EN, B22 GPIO13_BT_WAKE_AP, B23 GPIO7_TOUCH_RST, B25 GPIO6_TOUCH_INT, B29 SDIO_CMD, B30 SDIO_CLK, B32 SDIO_D0, C6 I2C_CAM_CLK, D6 I2C_CAM_DAT, D7 GPIO5_CAM_FLASH_EN, D9 UART1_TX, D10 UART1_RX, D15 I2C_GP0_DAT, E3 SPI0_CLK, E4 SPI0_MISO, E9 UART1_RTS#, E10 UART1_CTS#, E13 SPI1_CS1#, E14 SPI1_CS0#, E15 I2C_GP0_CLK, F2 GPIO19_AUD_RST, F3 SPI0_CS0#, F4 SPI0_MOSI, F7 GPIO1_CAM1_PWR#, F13 SPI1_MOSI, F14 SPI1_MISO, F16 SPI2_CS1#, F17 SDCARD_CD#, F18 SDCARD_D3, F19 SDCARD_D2, F20 SDCARD_WP, G7 GPIO4_CAM_STROBE, G8 GPIO0_CAM0_PWR#, G11 UART0_RTS#, G12 UART0_RX, G13 SPI1_CLK, G14 GPIO9_MOTION_INT, G15 SPI2_MOSI, G16 SPI2_CS0#, G18 SDCARD_CLK, G19 SDCARD_CMD, H3 GPIO20_AUD_INT, H7 GPIO3_CAM1_RST#, H8 GPIO2_CAM0_RST#, H11 UART0_CTS#, H12 UART0_TX, H13 GPIO8_ALS_PROX_INT, H14 SPI2_CLK, H15 SPI2_MISO, H16 SDCARD_PWR_EN, H17 SDCARD_D1, H18 SDCARD_D0
part A text: SoM Power and CTRL
part B text: SoM Interfaces - High Speed
part C text: Display interfaces; PCIe#1; PCIe#2; PCIe#RFU; SoM Unused
part D text: SoM Interfaces - LowSpeed

## PCA9517ATP
designator IC?
I2C BUS REPEATER W/ LEVEL TRANS, HWSON-8; Manufacturer: NXP; Part Number: PCA9517ATP; Value: PCA9517ATP; Part Symbol: PCA9517ATP
footprint PCA9517ATP
pins: 1 SDAA, 2 GND, 3 EN, 4 SDAB, 5 SCLB, 6 VCCB, 7 VCCA, 8 SCLA, 9 EP

## PMV16XN
designator T?
MOSFET Transistor, N Channel, 6.8 A, 20 V, 0.016 ohm, 4.5 V; Manufacturer: NXP; Value: PMV16XN; Part Number: PMV16XN; Part Symbol: PMV16XN
footprint SOT-23 (SOT23, 3-Leads, Body 2.90x2.45mm, Pitch 0.95mm, IPC Medium Density)
pins: 1 G, 2 S, 3 D

## QSE-040-01-L-D-A
designator J?
SAMTEC 	QSE-040-01-L-D-A  Stacking Board Connector, Dual Row, QSE Series, Receptacle, 0.8 mm, 80 Contacts, Surface Mount; Part Number: QSE-040-01-L-D-A; Value: QSE-040-01-L-D-A; Manufacturer: SAMTEC; Part Symbol: QSE-040-01-L-D-A
footprint QSE-040-01-L-D-A
pins: 1, 2, 3, 4, 5, 6, 7, 8, 9, 10, 11, 12, 13, 14, 15, 16, 17, 18, 19, 20, 21, 22, 23, 24, 25, 26, 27, 28, 29, 30, 31, 32, 33, 34, 35, 36, 37, 38, 39, 40, 41, 42, 43, 44, 45, 46, 47, 48, 49, 50, 51, 52, 53, 54, 55, 56, 57, 58, 59, 60, 61, 62, 63, 64, 65, 66, 67, 68, 69, 70, 71, 72, 73, 74, 75, 76, 77, 78, 79, 80, 81, 82, 83, 84, 85, 86, 87, 88
text: METAL PLANE

## R_0R_0402
designator R?, comment 0R
RES, 0R, 0402; PartNumber: R_0R_0402; Manufacturer: Panasonic; PartSymbol: ERJ2GE0R00X; Value: 0R
footprint 0402
pins: 1, 2

## R_0R_0603
designator R?, comment 0R
RES, 0R, 0603; PartNumber: R_0R_0603; Manufacturer: BOURNS; PartSymbol: CR0603-J/-000ELF; Value: 0R
footprint 0603 (Chip Inductor Ferrite Bead 0603)
pins: 1, 2

## R_0R_1206
designator R?, comment 0R
RES, 0R, 1206; PartNumber: R_0R_1206; Manufacturer: MULTICOMP; PartSymbol: MCMR12X000 PTL; Value: 0R
footprint 1206
pins: 1, 2

## R_1k_0402
designator R?, comment 1k
RES, 1k, 0402; PartNumber: R_1k_0402; Manufacturer: BOURNS; PartSymbol: CR0402-FX-1001GLF; Value: 1k
footprint 0402
pins: 1, 2

## R_1M_0603
designator R?, comment 1M
RES, 1M, 0603; PartNumber: R_1M_0603; Manufacturer: BOURNS; PartSymbol: CR0603-JW-105GLF; Value: 1M
footprint 0603 (Chip Inductor Ferrite Bead 0603)
pins: 1, 2

## R_2k2_0402
designator R?, comment 2k2
RES, 2k2, 0402; PartNumber: R_2k2_0402; Manufacturer: MULTICOMP; PartSymbol: MCWR04X2201FTL; Value: 2k2
footprint 0402
pins: 1, 2

## R_2k2_0603
designator R?, comment 2k2
RES, 2k2, 0603; PartNumber: R_2k2_0603; Manufacturer: MULTICOMP; PartSymbol: MCMR06X2201FTL; Value: 2k2
footprint 0603 (Chip Inductor Ferrite Bead 0603)
pins: 1, 2

## R_2k_0402
designator R?, comment 2k
RES, 2k, 0402; PartNumber: R_2k_0402; Manufacturer: VISHAY; PartSymbol: CRCW04022K00FKED; Value: 2k
footprint 0402
pins: 1, 2

## R_2R_0603
designator R?, comment 2R
RES, 2R, 0603; PartNumber: R_2R_0603; Manufacturer: MULTICOMP; PartSymbol: MCSR06W2R00FTL; Value: 2R
footprint 0603 (Chip Inductor Ferrite Bead 0603)
pins: 1, 2

## R_4k7_0402
designator R?, comment 4k7
RES, 4k7, 0402; PartNumber: R_4k7_0402; Manufacturer: Panasonic; PartSymbol: ERJ2GEJ472X; Value: 4k7
footprint 0402
pins: 1, 2

## R_4k7_0603
designator R?, comment 4k7
RES, 4k7, 0603; PartNumber: R_4k7_0603; Manufacturer: BOURNS; PartSymbol: CR0603-FX-4701ELF; Value: 4k7
footprint 0603 (Chip Inductor Ferrite Bead 0603)
pins: 1, 2

## R_5k6_0603
designator R?, comment 10k2
RES, 5k6, 0603; PartNumber: R_5k6_0603; Manufacturer: Panasonic; PartSymbol: ERJ3GEYJ562V; Value: 10k2
footprint 0603 (Chip Inductor Ferrite Bead 0603)
pins: 1, 2

## R_5R6_0402
designator R?, comment 5R6
RES, 5R6, 0402; PartNumber: R_5R6_0402; Manufacturer: Panasonic; PartSymbol: ERJ2GEJ5R6X; Value: 5R6
footprint 0402
pins: 1, 2

## R_10k2_0402
designator R?, comment 10k2
RES, 10k2, 0402, 0.1%; PartNumber: R_10k2_0402_0.1%; Manufacturer: TE CONECTIVITY; PartSymbol: CPF0402B10K2E1; Tolerance: 0.1%; Value: 10k2
footprint 0402
pins: 1, 2

## R_10k_0402
designator R?, comment 10k
RES, 10k, 0402; PartNumber: R_10k_0402; Manufacturer: MULTICOMP; PartSymbol: MCMR04X1002FTL; Value: 10k
footprint 0402
pins: 1, 2

## R_10k_0603
designator R?, comment 10k
RES, 10k, 0603; PartNumber: R_10k_0603; Manufacturer: BOURNS; PartSymbol: CR0603-JW-103ELF; Value: 10k
footprint 0603 (Chip Inductor Ferrite Bead 0603)
pins: 1, 2

## R_13k_0603
designator R?, comment 13k
RES, 13k, 0603; PartNumber: R_13k_0603; Manufacturer: PANASONIC ELECTRONIC COMPONENTS; PartSymbol: ERJ3GEYJ133V; Value: 13k
footprint 0603 (Chip Inductor Ferrite Bead 0603)
pins: 1, 2

## R_16k9_0402
designator R?, comment 16k9
RES, 16k9, 0402; PartNumber: R_16k9_0402; Manufacturer: Panasonic; PartSymbol: ERA2AEB1692X; Value: 16k9
footprint 0402
pins: 1, 2

## R_22R_0402
designator R?, comment 22R
RES, 22R, 0402; PartNumber: R_22R_0402; Manufacturer: VISHAY; PartSymbol: CRCW040222R0FKED; Value: 22R
footprint 0402
pins: 1, 2

## R_22R_0603
designator R?, comment 22R
RES, 22R, 0603; PartNumber: R_22R_0603; Manufacturer: BOURNS; PartSymbol: CR0603-JW-220GLF; Value: 22R
footprint 0603 (Chip Inductor Ferrite Bead 0603)
pins: 1, 2

## R_47k_0603
designator R?, comment 47k
RES, 47k, 0603; PartNumber: R_47k_0603; Manufacturer: MULTICOMP; PartSymbol: MCWR06X4702FTL; Value: 47k
footprint 0603 (Chip Inductor Ferrite Bead 0603)
pins: 1, 2

## R_49R9_0402
designator R?, comment 49R9
RES, 49R9, 0402; PartNumber: R_49R9_0402; Manufacturer: VISHAY; PartSymbol: CRCW040249R9FKED; Value: 49R9
footprint 0402
pins: 1, 2

## R_53k6_0402
designator R?, comment 53k6
RES, 53k6, 0402; PartNumber: R_53k6_0402; Manufacturer: TE CONECTIVITY; PartSymbol: CPF0402B53K6E1; Value: 53k6
footprint 0402
pins: 1, 2

## R_54k9_0603
designator R?, comment 54k9
RES, 54k9, 0603; PartNumber: R_54k9_0603; Manufacturer: PANASONIC ELECTRONIC COMPONENTS; PartSymbol: ERJ3EKF5492V; Value: 54k9
footprint 0603 (Chip Inductor Ferrite Bead 0603)
pins: 1, 2

## R_75R_0603
designator R?, comment 75R
RES, 75R, 0603; PartNumber: R_75R_0603; Manufacturer: MULTICOMP; PartSymbol: MCWR06X75R0FTL; Value: 75R
footprint 0603 (Chip Inductor Ferrite Bead 0603)
pins: 1, 2

## R_100k_0603
designator R?, comment 100k
RES, 100k, 0603; PartNumber: R_100k_0603; Manufacturer: BOURNS; PartSymbol: CR0603-FX-1003HLF; Value: 100k
footprint 0603 (Chip Inductor Ferrite Bead 0603)
pins: 1, 2

## R_100R_0603
designator R?, comment 100R
RES, 100R, 0603; PartNumber: R_100R_0603; Manufacturer: MULTICOMP; PartSymbol: MC0063W06035100R; Value: 100R
footprint 0603 (Chip Inductor Ferrite Bead 0603)
pins: 1, 2

## R_200k_0402
designator R?, comment 200k
RES, 200k, 0402; PartNumber: R_200k_0402; Manufacturer: YAGEO; PartSymbol: RC0402FR-07200KL; Value: 200k
footprint 0402
pins: 1, 2

## R_220R_0402
designator R?, comment 220R
RES, 220R, 0402; PartNumber: R_220R_0402; Manufacturer: TE CONECTIVITY; PartSymbol: CRG0402J220R; Value: 220R
footprint 0402
pins: 1, 2

## R_243k_0402
designator R?, comment 243k
RES, 243k, 0402; PartNumber: R_243k_0402; Manufacturer: MULTICOMP; PartSymbol: MCMR04X2433FTL; Value: 243k
footprint 0402
pins: 1, 2

## R_316k_0603
designator R?, comment 316k
RES, 316k, 0603; PartNumber: R_316k_0603; Manufacturer: MULTICOMP; PartSymbol: MC0063W06031316K; Value: 316k
footprint 0603 (Chip Inductor Ferrite Bead 0603)
pins: 1, 2

## R_330R_0603
designator R?, comment 330R
RES, 330R, 0603; PartNumber: R_330R_0603; Manufacturer: BOURNS; PartSymbol: CR0603-FX-3300GLF; Value: 330R
footprint 0603 (Chip Inductor Ferrite Bead 0603)
pins: 1, 2

## R_470k_0603
designator R?, comment 470k
RES, 470k, 0603; PartNumber: R_470k_0603; Manufacturer: VISHAY; PartSymbol: CRCW0603470KFKEA; Value: 470k
footprint 0603 (Chip Inductor Ferrite Bead 0603)
pins: 1, 2

## R_470R_0402
designator R?, comment 470R
RES, 470R, 0402; PartNumber: R_470R_0402; Manufacturer: VISHAY; PartSymbol: CRCW0402470RFKED.; Value: 470R
footprint 0402
pins: 1, 2

## R_470R_0603
designator R?, comment 10k2
RES, 470R, 0603; PartNumber: R_470R_0603; Manufacturer: BOURNS; PartSymbol: CR0603-JW-471GLF; Tolerance: 0.1%; Value: 10k2
footprint 0603 (Chip Inductor Ferrite Bead 0603)
pins: 1, 2

## R_909k_0402
designator R?, comment 909k
RES, 909k, 0402; PartNumber: R_909k_0402; Manufacturer: Panasonic; PartSymbol: ERJ2RKF9093X; Value: 909k
footprint 0402
pins: 1, 2

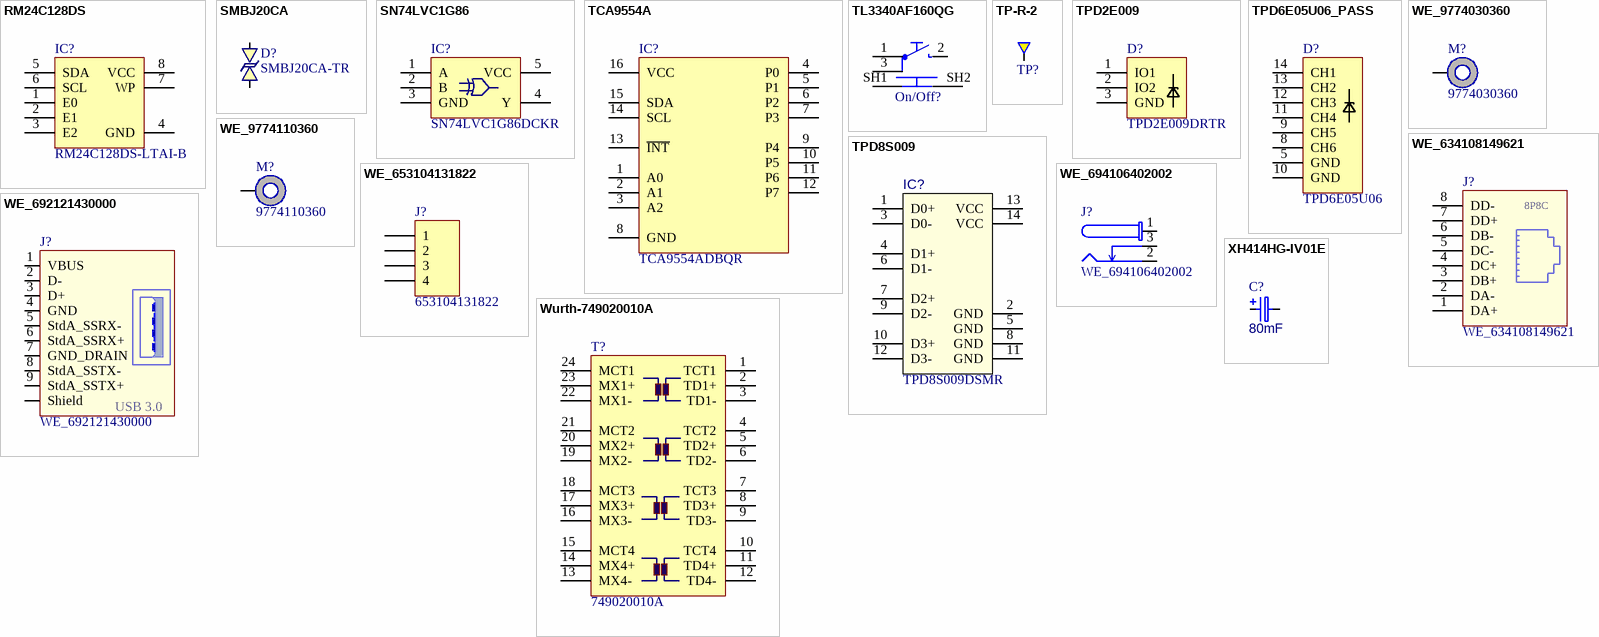
[diagram p4: symbols RM24C128DS to XH414HG-IV01E]

## RM24C128DS
designator IC?, comment RM24C128DS-LTAI-B
EEPROM with UID and OTP registers.; Manufacturer: Adesto; Part Number: RM24C128DS; Value: RM24C128DS-LTAI-B; Part Symbol: RM24C128DS-LTAI-B
footprint TSSOP-8
pins: 1 E0, 2 E1, 3 E2, 4 GND, 5 SDA, 6 SCL, 7 WP, 8 VCC

## SMBJ20CA
designator D?, comment SMBJ20CA-TR
DIODE, TVS, 20V, 600W; Manufacturer: STMICROELECTRONICS; Part Number: SMBJ20CA; Value: SMBJ20CA-TR; Part Symbol: SMBJ20CA-TR
footprint DO-214AA
pins: A, C

## SN74LVC1G86
designator IC?, comment SN74LVC1G86DCKR
2 input XOR gate; Manufacturer: Texas Instruments; Part Number: SN74LVC1G86DCKR; Value: SN74LVC1G86DCKR; Part Symbol: SN74LVC1G86DCKR
footprint SC70-5
pins: 1 A, 2 B, 3 GND, 4 Y, 5 VCC

## TCA9554A
designator IC?, comment TCA9554ADBQR
Remote 8bit I2C SMBus I/O expander; Manufacturer: Texas Instruments; Part Number: TCA9554ADBQR; Value: TCA9554ADBQR; Part Symbol: TCA9554ADBQR
footprint DBQ0016A
pins: 1 A0, 2 A1, 3 A2, 4 P0, 5 P1, 6 P2, 7 P3, 8 GND, 9 P4, 10 P5, 11 P6, 12 P7, 13 ~{INT}, 14 SCL, 15 SDA, 16 VCC

## TL3340AF160QG
designator On/Off?  (value not drawn)
E-SWITCH  TL3340AF160QG  SWITCH, TACTILE SPST 50mA, SMD GULL WING; Part Number: TL3340AF160QG; Value: TL3340AF160QG; Manufacturer: E-SWITCH; Part Symbol: TL3340AF160QG
footprint TL3340AF160QG
pins: 1, 2, 3, SH1, SH2

## TP-R-2
designator TP?  (no BOM)
Testpad, round, 2mm; Part Number: TP-R-2
footprint TP-R-2
pins: 1

## TPD2E009
designator D?, comment TPD2E009DRTR
ESD Suppressors 2-CH; Manufacturer: Texas Instruments; Part Number: TPD2E009DRTR; Value: TPD2E009DRTR; Part Symbol: TPD2E009DRTR
footprint SOT-3
pins: 1 IO1, 2 IO2, 3 GND

## TPD6E05U06_PASS
designator D?, comment TPD6E05U06
ESD Suppressors 6-CH Pass through layout; Part Number: TPD6E05U06_PASS; Manufacturer: Texas Instruments; Part Symbol: TPD6E05U06RVZR; Value: TPD6E05U06
footprint TPD6E05U06_PASS
pins: 5 GND, 8 CH6, 9 CH5, 10 GND, 11 CH4, 12 CH3, 13 CH2, 14 CH1

## TPD8S009
designator IC?  Part Symbol: TPD8S009DSMR  (hidden comment: TPD8S009)
8-Channel ESD Protection for DisplayPort and HDMI; Manufacturer: TEXAS INSTRUMENTS; Part Number: TPD8S009; Value: TPD8S009
footprint SON-15
pins: 1 D0+, 2 GND, 3 D0-, 4 D1+, 5 GND, 6 D1-, 7 D2+, 8 GND, 9 D2-, 10 D3+, 11 GND, 12 D3-, 13 VCC, 14 VCC
1 alternate drawing of the same symbol

## WE_9774030360
designator M?, comment 9774030360
M3x3; Part Number: WE_9774030360; Manufacturer: WURTH ELEKTRONIK; Value: 9774030360; Part Symbol: 9774030360
footprint M3-3mm
pins: 1

## WE_9774110360
designator M?, comment 9774110360
M3x11.6; Part Number: WE_9774110360; Manufacturer: WURTH ELEKTRONIK; Value: 9774110360; Part Symbol: 9774110360
footprint WE_9774110360 (Standoffs & Spacers WA-SMSI SMD Steel Spacer M3 6mm)
pins: 1

## WE_634108149621
designator J?
Modular Connectors / Ethernet Connectors WR-MJ Mod Jk 8P8C Solder Tab w/Mylar; Manufacturer: WURTH ELEKTRONIK; Part Number: WE_634108149621; Value: WE_634108149621; Part Symbol: 634108149621
footprint WE_634108149621
pins: 1 DA+, 2 DA-, 3 DB+, 4 DC+, 5 DC-, 6 DB-, 7 DD+, 8 DD-
text: 8P8C

## WE_653104131822
designator J?, comment 653104131822
HEADER 4POS MALE HORIZ 1.25MM SMD; Part Number: WE_653104131822; Manufacturer: WURTH ELEKTRONIK; Value: 653104131822; Part Symbol: 653104131822
footprint WE_653104131822
pins: 1, 2, 3, 4

## WE_692121430000
designator J?
WURTH ELEKTRONIK 	692121430000  USB Connector, USB Type A, USB 3.0, Receptacle, 9 Ways, PCB Mount, Vertical; Part Number: WE_692121430000; Value: WE_692121430000; Manufacturer: WURTH ELEKTRONIK; Part Symbol: 692121430000
footprint WE_692121430000
pins: 1 VBUS, 2 D-, 3 D+, 4 GND, 5 StdA_SSRX-, 6 StdA_SSRX+, 7 GND_DRAIN, 8 StdA_SSTX-, 9 StdA_SSTX+, Z1 Shield
text: USB 3.0

## WE_694106402002
designator J?
WURTH ELEKTRONIK 	694106402002  POWER ENTRY, JACK, 2MM, VERTICAL THT, 3A; Part Number: WE_694106402002; Value: WE_694106402002; Manufacturer: WURTH ELEKTRONIK; Part Symbol: 694106402002
footprint WE_694106402002
pins: 1 (power), 2 (power), 3 (power)

## Wurth-749020010A
designator T?, comment 749020010A
LAN TRANSFORMER, 10/100/1000 BASE-T; Part Number: Wurth-749020010A; Manufacturer: WURTH ELEKTRONIK; Value: 749020010A; Part Symbol: 749020010A
footprint Wurth-749020010A
pins: 1 TCT1, 2 TD1+, 3 TD1-, 4 TCT2, 5 TD2+, 6 TD2-, 7 TCT3, 8 TD3+, 9 TD3-, 10 TCT4, 11 TD4+, 12 TD4-, 13 MX4-, 14 MX4+, 15 MCT4, 16 MX3-, 17 MX3+, 18 MCT3, 19 MX2-, 20 MX2+, 21 MCT2, 22 MX1-, 23 MX1+, 24 MCT1

## XH414HG-IV01E
designator C?, comment 80mF
CAP 80MF 3.3V SURFACE MOUNT; Part Number: XH414HG-IV01E; Manufacturer: SEIKO; Part Symbol: XH414HG-IV01E; Value: 80mF
footprint XH414HG-IV01E
pins: 1, 2
1 alternate drawing of the same symbol